# EAGLE library part GENERIC-SIP-50_ (library newNVSL)
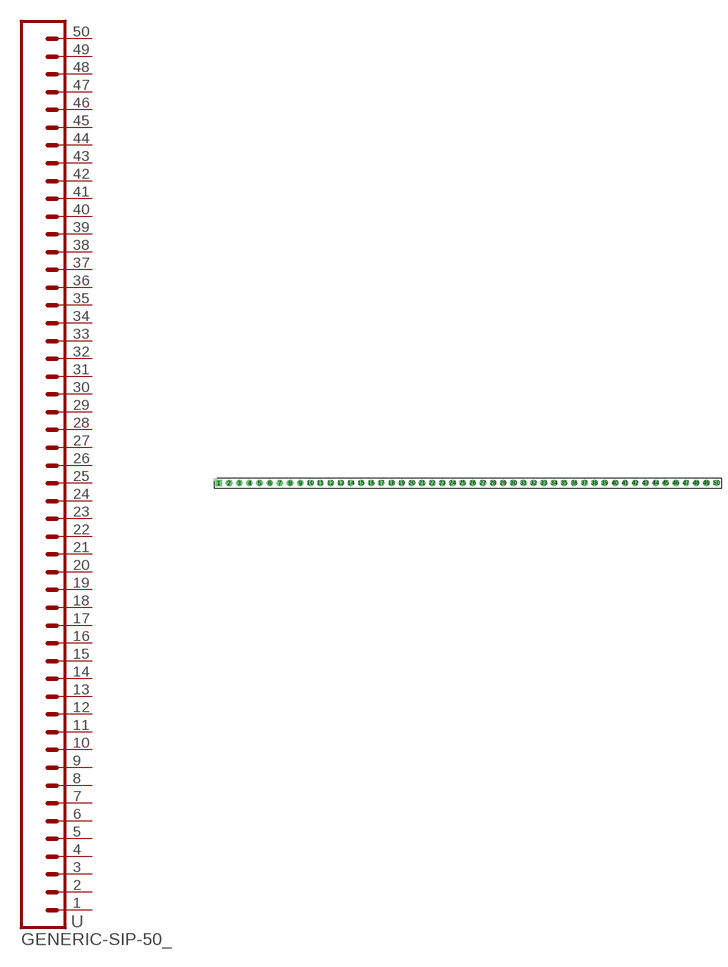
[diagram p3: symbol with the pads of HDRV50W63P254_50X1_12700X254H838; footprint HDRV50W63P254_50X1_12700X254H838]

Designator prefix -

## GENERIC-SIP-50_BREAKABLE-2.54-SPACE-VERTICAL  [HDRV50W63P254_50X1_12700X254H838]
1  1  pas
2  2  pas
3  3  pas
4  4  pas
5  5  pas
6  6  pas
7  7  pas
8  8  pas
9  9  pas
10  10  pas
11  11  pas
12  12  pas
13  13  pas
14  14  pas
15  15  pas
16  16  pas
17  17  pas
18  18  pas
19  19  pas
20  20  pas
21  21  pas
22  22  pas
23  23  pas
24  24  pas
25  25  pas
26  26  pas
27  27  pas
28  28  pas
29  29  pas
30  30  pas
31  31  pas
32  32  pas
33  33  pas
34  34  pas
35  35  pas
36  36  pas
37  37  pas
38  38  pas
39  39  pas
40  40  pas
41  41  pas
42  42  pas
43  43  pas
44  44  pas
45  45  pas
46  46  pas
47  47  pas
48  48  pas
49  49  pas
50  50  pas

## Footprint HDRV50W63P254_50X1_12700X254H838 (pad centres in mm)
drill 1.1 pad 1.65 square: 1 0,0
drill 1.1 pad 1.65: 2 2.54,0; 3 5.08,0; 4 7.62,0; 5 10.16,0; 6 12.7,0; 7 15.24,0; 8 17.78,0; 9 20.32,0; 10 22.86,0; 11 25.4,0; 12 27.94,0; 13 30.48,0; 14 33.02,0; 15 35.56,0; 16 38.1,0; 17 40.64,0; 18 43.18,0; 19 45.72,0; 20 48.26,0; 21 50.8,0; 22 53.34,0; 23 55.88,0; 24 58.42,0; 25 60.96,0; 26 63.5,0; 27 66.04,0; 28 68.58,0; 29 71.12,0; 30 73.66,0; 31 76.2,0; 32 78.74,0; 33 81.28,0; 34 83.82,0; 35 86.36,0; 36 88.9,0; 37 91.44,0; 38 93.98,0; 39 96.52,0; 40 99.06,0; 41 101.6,0; 42 104.14,0; 43 106.68,0; 44 109.22,0; 45 111.76,0; 46 114.3,0; 47 116.84,0; 48 119.38,0; 49 121.92,0; 50 124.46,0